# EAGLE library part TE-5103310 (library Neel)
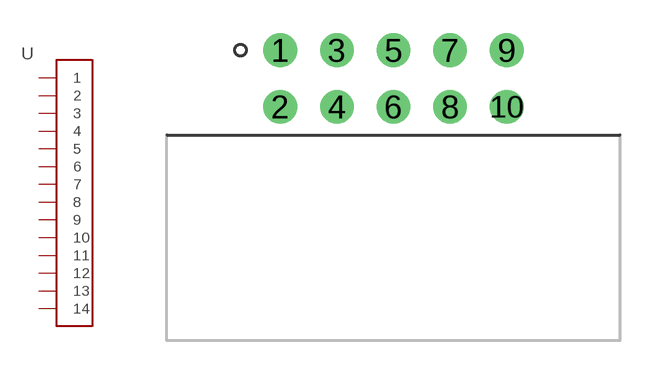
[diagram p43: symbol with the pads of AWH10A-0232; footprint AWH10A-0232]

Designator prefix -

## TE-5103310  [AWH10A-0232]
1  1
2  2
3  3
4  4
5  5
6  6
7  7
8  8
9  9
10  10

## Footprint AWH10A-0232 (pad centres in mm)
drill 1: 1 -5.08,1.27; 2 -5.08,-1.27; 3 -2.54,1.27; 4 -2.54,-1.27; 5 0,1.27; 6 0,-1.27; 7 2.54,1.27; 8 2.54,-1.27; 9 5.08,1.27; 10 5.08,-1.27